# Altium integrated library TI Power Management Battery Management.IntLib: 949 symbols (part 57 of 62)
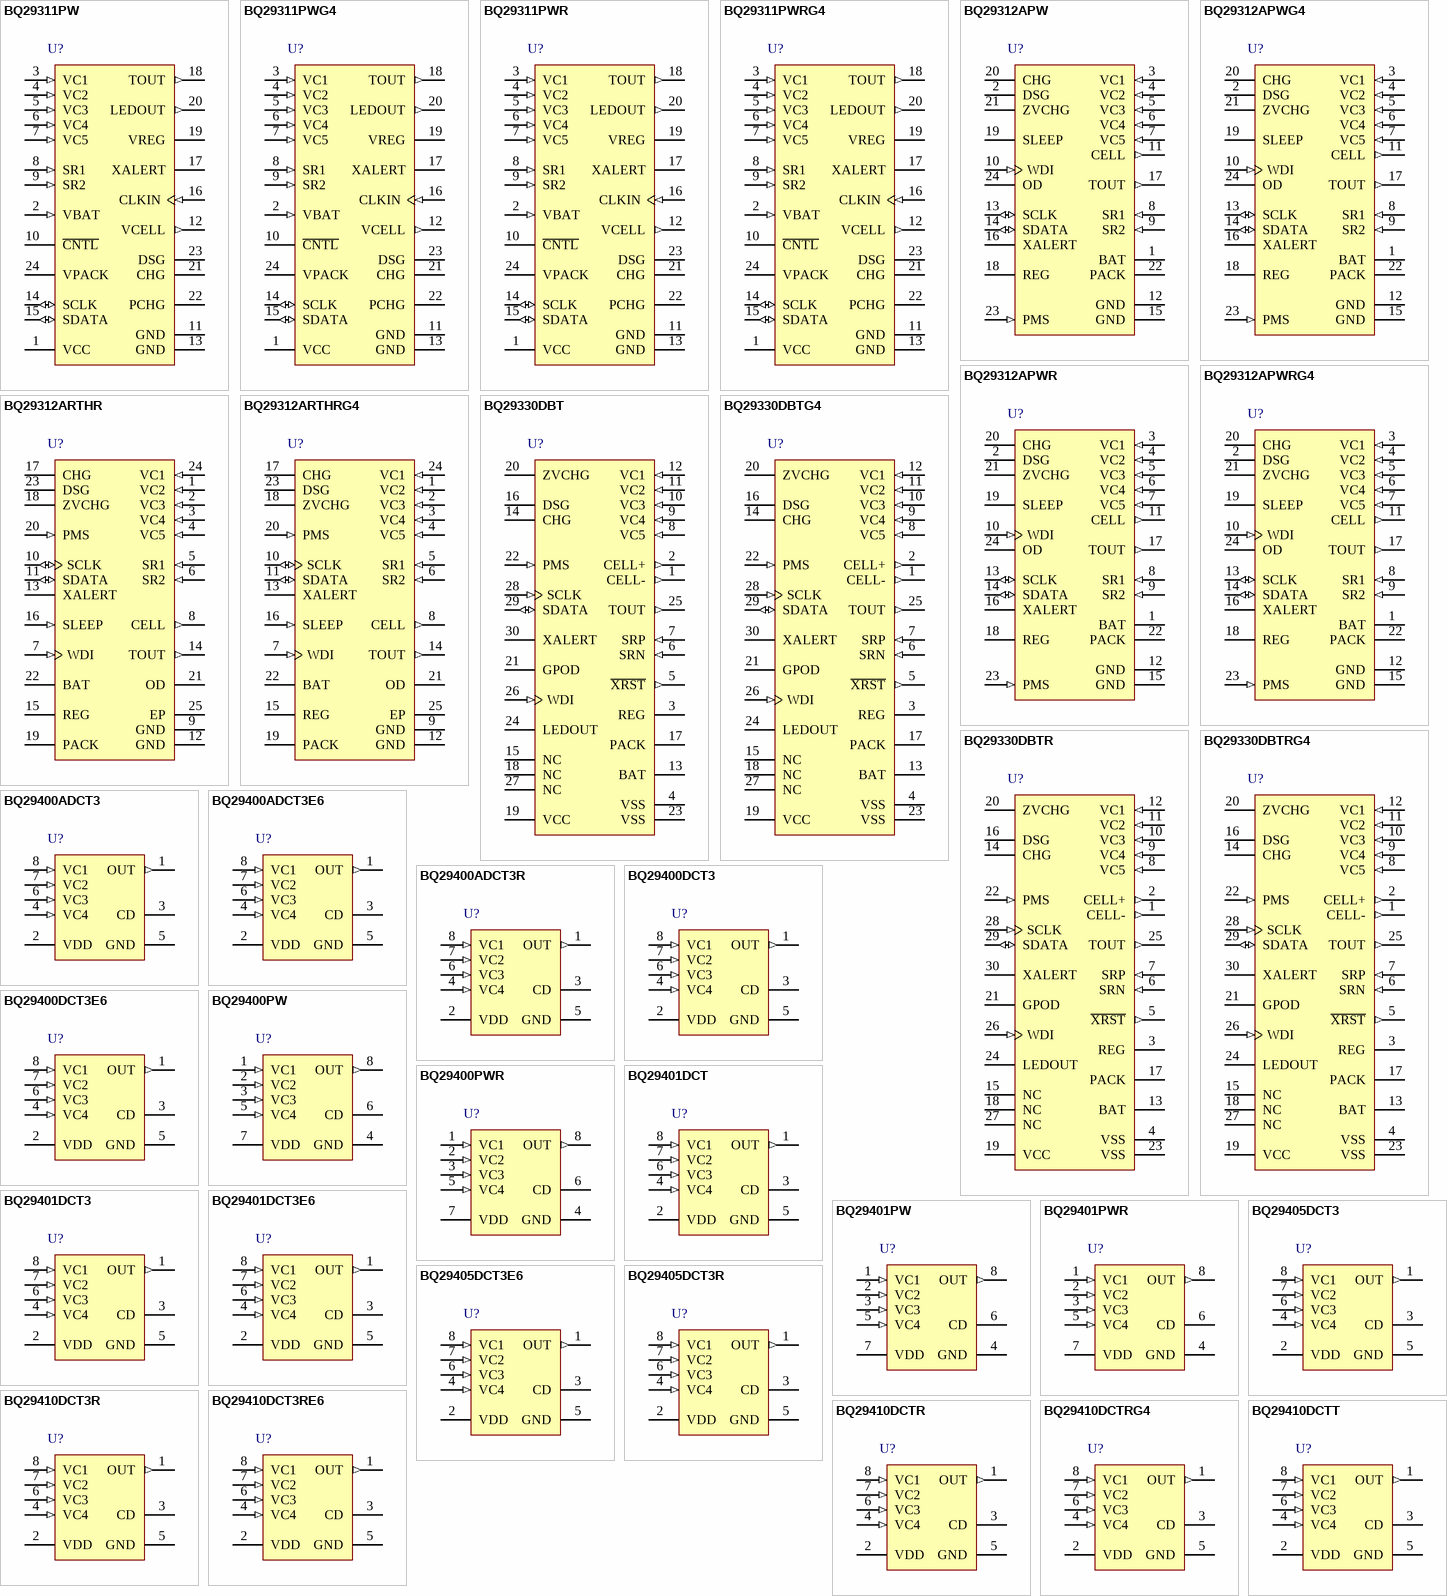
[diagram p90: symbols BQ29311PW to BQ29410DCTT]

## BQ29400DCT3
designator U?
2nd Level Over Voltage Protection for 2, 3, or 4 Cell LiIon & LiPoly Batteries (2nd Lev Protection), 8-pin SM8 (DCT), Pb-Free (RoHS); PartNumber: BQ29400DCT3; Manufacturer: Texas Instruments; Lead Acid: N; Li-Ion: Y; SubFamily: Lithium Ion Protection; DatasheetVersion: SLUS568C; PackageVersion: revC, Sep-2002; PackageReference: DCT8; PackageDescription: 8-Pin Thin Small Outline Package 3 x 2.8 mm Body ,0.65 mm Pitch; Supplier 1: Digi-Key; Supplier Part Number 1: 296-21691-2-ND; Supplier 2: Digi-Key; Supplier Part Number 2: 296-21691-1-ND; Supplier 3: Digi-Key; Supplier Part Number 3: 296-21691-6-ND; Supplier 4: Mouser; Supplier Part Number 4: 595-BQ29400DCT3; Eco-Plan: Pb-Free (RoHS); Li-Polymer: Y; NiCd: N; NiMH: N; Over Voltage Protection: Y; Mounting Technology: Surface Mount; Code_JEDEC: MO-187-DA; ComponentLink1Description: Datasheet; ComponentLink1URL: http://www.ti.com/general/docs/lit/getliterature.tsp?genericPartNumber=BQ29400&fileType=pdf
footprint DCT8_N (TSOP, 8-Leads, Body 3x2.8mm, Pitch 0.65mm, IPC Medium Density)
footprint DCT8_L (TSOP, 8-Leads, Body 3x2.8mm, Pitch 0.65mm, IPC High Density)
footprint DCT8_M (TSOP, 8-Leads, Body 3x2.8mm, Pitch 0.65mm, IPC Low Density)
pins: 1 OUT (out) "Output", 2 VDD (power) "Power supply", 3 CD "An external capacitor is connected to determine the programmable delay time", 4 VC4 (in) "Sense voltage input for least positive cell", 5 GND (power) "Ground pin", 6 VC3 (in) "Sense voltage input for third most positive cell", 7 VC2 (in) "Sense voltage input for second most positive cell", 8 VC1 (in) "Sense voltage input for most positive cell"

## BQ29400DCT3E6
designator U?
2nd Level Over Voltage Protection for 2, 3, or 4 Cell LiIon & LiPoly Batteries (2nd Lev Protection), 8-pin SM8 (DCT), Pb-Free (RoHS); PartNumber: BQ29400DCT3E6; Manufacturer: Texas Instruments; Lead Acid: N; Li-Ion: Y; SubFamily: Lithium Ion Protection; DatasheetVersion: SLUS568C; PackageVersion: revC, Sep-2002; PackageReference: DCT8; PackageDescription: 8-Pin Thin Small Outline Package 3 x 2.8 mm Body ,0.65 mm Pitch; Supplier 1: Digi-Key; Supplier Part Number 1: BQ29400DCT3E6-ND; Supplier 2: Mouser; Supplier Part Number 2: 595-BQ29400DCT3E6; Eco-Plan: Pb-Free (RoHS); Li-Polymer: Y; NiCd: N; NiMH: N; Over Voltage Protection: Y; Mounting Technology: Surface Mount; Code_JEDEC: MO-187-DA; ComponentLink1Description: Datasheet; ComponentLink1URL: http://www.ti.com/general/docs/lit/getliterature.tsp?genericPartNumber=BQ29400&fileType=pdf
footprint DCT8_N (TSOP, 8-Leads, Body 3x2.8mm, Pitch 0.65mm, IPC Medium Density)
footprint DCT8_L (TSOP, 8-Leads, Body 3x2.8mm, Pitch 0.65mm, IPC High Density)
footprint DCT8_M (TSOP, 8-Leads, Body 3x2.8mm, Pitch 0.65mm, IPC Low Density)
pins: 1 OUT (out) "Output", 2 VDD (power) "Power supply", 3 CD "An external capacitor is connected to determine the programmable delay time", 4 VC4 (in) "Sense voltage input for least positive cell", 5 GND (power) "Ground pin", 6 VC3 (in) "Sense voltage input for third most positive cell", 7 VC2 (in) "Sense voltage input for second most positive cell", 8 VC1 (in) "Sense voltage input for most positive cell"

## BQ29400PW
designator U?
2nd Level Over Voltage Protection for 2, 3, or 4 Cell LiIon & LiPoly Batteries (2nd Lev Protection), -25 to 85 degC, 8-pin TSSOP (PW), Green (RoHS & no Sb/Br); PartNumber: BQ29400PW; Manufacturer: Texas Instruments; Lead Acid: N; Li-Ion: Y; SubFamily: Lithium Ion Protection; DatasheetVersion: SLUS568C; PackageVersion: revG, Feb-2011; PackageReference: PW8; PackageDescription: 8-Pin Plastic Thin Small Outline Package 3 x 4.4 mm Body ,0.65 mm Pitch; Supplier 1: Digi-Key; Supplier Part Number 1: 296-15331-5-ND; Supplier 2: Newark; Supplier Part Number 2: 82H3104; Supplier 3: Mouser; Supplier Part Number 3: 595-BQ29400PW; Eco-Plan: Green (RoHS & no Sb/Br); Li-Polymer: Y; NiCd: N; NiMH: N; Over Voltage Protection: Y; Mounting Technology: Surface Mount; Code_JEDEC: MO-153; ComponentLink1Description: Datasheet; ComponentLink1URL: http://www.ti.com/general/docs/lit/getliterature.tsp?genericPartNumber=BQ29400&fileType=pdf
footprint PW8_N (TSOP, 8-Leads, Body 3x4.4mm, Pitch 0.65mm, IPC Medium Density)
footprint PW8_L (TSOP, 8-Leads, Body 3x4.4mm, Pitch 0.65mm, IPC High Density)
footprint PW8_M (TSOP, 8-Leads, Body 3x4.4mm, Pitch 0.65mm, IPC Low Density)
pins: 1 VC1 (in) "Sense voltage input for most positive cell", 2 VC2 (in) "Sense voltage input for second most positive cell", 3 VC3 (in) "Sense voltage input for third most positive cell", 4 GND (power) "Ground pin", 5 VC4 (in) "Sense voltage input for least positive cell", 6 CD "An external capacitor is connected to determine the programmable delay time", 7 VDD (power) "Power supply", 8 OUT (out) "Output"

## BQ29400PWR
designator U?
2nd Level Over Voltage Protection for 2, 3, or 4 Cell LiIon & LiPoly Batteries (2nd Lev Protection), -25 to 85 degC, 8-pin TSSOP (PW), Green (RoHS & no Sb/Br); PartNumber: BQ29400PWR; Manufacturer: Texas Instruments; Lead Acid: N; Li-Ion: Y; SubFamily: Lithium Ion Protection; DatasheetVersion: SLUS568C; PackageVersion: revG, Feb-2011; PackageReference: PW8; PackageDescription: 8-Pin Plastic Thin Small Outline Package 3 x 4.4 mm Body ,0.65 mm Pitch; Supplier 1: Digi-Key; Supplier Part Number 1: BQ29400PWR-ND; Supplier 2: Mouser; Supplier Part Number 2: 595-BQ29400PWR; Eco-Plan: Green (RoHS & no Sb/Br); Li-Polymer: Y; NiCd: N; NiMH: N; Over Voltage Protection: Y; Mounting Technology: Surface Mount; Code_JEDEC: MO-153; ComponentLink1Description: Datasheet; ComponentLink1URL: http://www.ti.com/general/docs/lit/getliterature.tsp?genericPartNumber=BQ29400&fileType=pdf
footprint PW8_N (TSOP, 8-Leads, Body 3x4.4mm, Pitch 0.65mm, IPC Medium Density)
footprint PW8_L (TSOP, 8-Leads, Body 3x4.4mm, Pitch 0.65mm, IPC High Density)
footprint PW8_M (TSOP, 8-Leads, Body 3x4.4mm, Pitch 0.65mm, IPC Low Density)
pins: 1 VC1 (in) "Sense voltage input for most positive cell", 2 VC2 (in) "Sense voltage input for second most positive cell", 3 VC3 (in) "Sense voltage input for third most positive cell", 4 GND (power) "Ground pin", 5 VC4 (in) "Sense voltage input for least positive cell", 6 CD "An external capacitor is connected to determine the programmable delay time", 7 VDD (power) "Power supply", 8 OUT (out) "Output"

## BQ29401DCT
designator U?
Voltage Protection for 2, 3 or 4 Cell Lion Batteries (2nd Protection), -20 to 85 degC, 8-pin SM8 (DCT); PartNumber: BQ29401DCT; Manufacturer: Texas Instruments; Lead Acid: N; Li-Ion: Y; SubFamily: Lithium Ion Protection; DatasheetVersion: SLUS568C; PackageVersion: revC, Sep-2002; PackageReference: DCT8; PackageDescription: 8-Pin Thin Small Outline Package 3 x 2.8 mm Body ,0.65 mm Pitch; Supplier 1: Mouser; Supplier Part Number 1: N/A; Li-Polymer: Y; NiCd: N; NiMH: N; Over Voltage Protection: Y; Mounting Technology: Surface Mount; Code_JEDEC: MO-187-DA; ComponentLink1Description: Datasheet; ComponentLink1URL: http://www.ti.com/general/docs/lit/getliterature.tsp?genericPartNumber=BQ29401&fileType=pdf
footprint DCT8_N (TSOP, 8-Leads, Body 3x2.8mm, Pitch 0.65mm, IPC Medium Density)
footprint DCT8_L (TSOP, 8-Leads, Body 3x2.8mm, Pitch 0.65mm, IPC High Density)
footprint DCT8_M (TSOP, 8-Leads, Body 3x2.8mm, Pitch 0.65mm, IPC Low Density)
pins: 1 OUT (out) "Output", 2 VDD (power) "Power supply", 3 CD "An external capacitor is connected to determine the programmable delay time", 4 VC4 (in) "Sense voltage input for least positive cell", 5 GND (power) "Ground pin", 6 VC3 (in) "Sense voltage input for third most positive cell", 7 VC2 (in) "Sense voltage input for second most positive cell", 8 VC1 (in) "Sense voltage input for most positive cell"

## BQ29401DCT3
designator U?
Voltage Protection for 2, 3 or 4 Cell Lion Batteries (2nd Protection), 8-pin SM8 (DCT), Pb-Free (RoHS); PartNumber: BQ29401DCT3; Manufacturer: Texas Instruments; Lead Acid: N; Li-Ion: Y; SubFamily: Lithium Ion Protection; DatasheetVersion: SLUS568C; PackageVersion: revC, Sep-2002; PackageReference: DCT8; PackageDescription: 8-Pin Thin Small Outline Package 3 x 2.8 mm Body ,0.65 mm Pitch; Supplier 1: Digi-Key; Supplier Part Number 1: BQ29401DCT3-ND; Supplier 2: Mouser; Supplier Part Number 2: 595-BQ29401DCT3; Eco-Plan: Pb-Free (RoHS); Li-Polymer: Y; NiCd: N; NiMH: N; Over Voltage Protection: Y; Mounting Technology: Surface Mount; Code_JEDEC: MO-187-DA; ComponentLink1Description: Datasheet; ComponentLink1URL: http://www.ti.com/general/docs/lit/getliterature.tsp?genericPartNumber=BQ29401&fileType=pdf
footprint DCT8_N (TSOP, 8-Leads, Body 3x2.8mm, Pitch 0.65mm, IPC Medium Density)
footprint DCT8_L (TSOP, 8-Leads, Body 3x2.8mm, Pitch 0.65mm, IPC High Density)
footprint DCT8_M (TSOP, 8-Leads, Body 3x2.8mm, Pitch 0.65mm, IPC Low Density)
pins: 1 OUT (out) "Output", 2 VDD (power) "Power supply", 3 CD "An external capacitor is connected to determine the programmable delay time", 4 VC4 (in) "Sense voltage input for least positive cell", 5 GND (power) "Ground pin", 6 VC3 (in) "Sense voltage input for third most positive cell", 7 VC2 (in) "Sense voltage input for second most positive cell", 8 VC1 (in) "Sense voltage input for most positive cell"

## BQ29401DCT3E6
designator U?
Voltage Protection for 2, 3 or 4 Cell Lion Batteries (2nd Protection), 8-pin SM8 (DCT), Pb-Free (RoHS); PartNumber: BQ29401DCT3E6; Manufacturer: Texas Instruments; Lead Acid: N; Li-Ion: Y; SubFamily: Lithium Ion Protection; DatasheetVersion: SLUS568C; PackageVersion: revC, Sep-2002; PackageReference: DCT8; PackageDescription: 8-Pin Thin Small Outline Package 3 x 2.8 mm Body ,0.65 mm Pitch; Supplier 1: Digi-Key; Supplier Part Number 1: BQ29401DCT3E6-ND; Supplier 2: Mouser; Supplier Part Number 2: 595-BQ29401DCT3E6; Eco-Plan: Pb-Free (RoHS); Li-Polymer: Y; NiCd: N; NiMH: N; Over Voltage Protection: Y; Mounting Technology: Surface Mount; Code_JEDEC: MO-187-DA; ComponentLink1Description: Datasheet; ComponentLink1URL: http://www.ti.com/general/docs/lit/getliterature.tsp?genericPartNumber=BQ29401&fileType=pdf
footprint DCT8_N (TSOP, 8-Leads, Body 3x2.8mm, Pitch 0.65mm, IPC Medium Density)
footprint DCT8_L (TSOP, 8-Leads, Body 3x2.8mm, Pitch 0.65mm, IPC High Density)
footprint DCT8_M (TSOP, 8-Leads, Body 3x2.8mm, Pitch 0.65mm, IPC Low Density)
pins: 1 OUT (out) "Output", 2 VDD (power) "Power supply", 3 CD "An external capacitor is connected to determine the programmable delay time", 4 VC4 (in) "Sense voltage input for least positive cell", 5 GND (power) "Ground pin", 6 VC3 (in) "Sense voltage input for third most positive cell", 7 VC2 (in) "Sense voltage input for second most positive cell", 8 VC1 (in) "Sense voltage input for most positive cell"

## BQ29401PW
designator U?
Voltage Protection for 2, 3 or 4 Cell Lion Batteries (2nd Protection), -20 to 85 degC, 8-pin TSSOP (PW), Green (RoHS & no Sb/Br); PartNumber: BQ29401PW; Manufacturer: Texas Instruments; Lead Acid: N; Li-Ion: Y; SubFamily: Lithium Ion Protection; DatasheetVersion: SLUS568C; PackageVersion: revG, Feb-2011; PackageReference: PW8; PackageDescription: 8-Pin Plastic Thin Small Outline Package 3 x 4.4 mm Body ,0.65 mm Pitch; Supplier 1: Digi-Key; Supplier Part Number 1: 296-16673-5-ND; Supplier 2: Newark; Supplier Part Number 2: 90H0529; Supplier 3: Mouser; Supplier Part Number 3: 595-BQ29401PW; Eco-Plan: Green (RoHS & no Sb/Br); Li-Polymer: Y; NiCd: N; NiMH: N; Over Voltage Protection: Y; Mounting Technology: Surface Mount; Code_JEDEC: MO-153; ComponentLink1Description: Datasheet; ComponentLink1URL: http://www.ti.com/general/docs/lit/getliterature.tsp?genericPartNumber=BQ29401&fileType=pdf
footprint PW8_N (TSOP, 8-Leads, Body 3x4.4mm, Pitch 0.65mm, IPC Medium Density)
footprint PW8_L (TSOP, 8-Leads, Body 3x4.4mm, Pitch 0.65mm, IPC High Density)
footprint PW8_M (TSOP, 8-Leads, Body 3x4.4mm, Pitch 0.65mm, IPC Low Density)
pins: 1 VC1 (in) "Sense voltage input for most positive cell", 2 VC2 (in) "Sense voltage input for second most positive cell", 3 VC3 (in) "Sense voltage input for third most positive cell", 4 GND (power) "Ground pin", 5 VC4 (in) "Sense voltage input for least positive cell", 6 CD "An external capacitor is connected to determine the programmable delay time", 7 VDD (power) "Power supply", 8 OUT (out) "Output"

## BQ29401PWR
designator U?
Voltage Protection for 2, 3 or 4 Cell Lion Batteries (2nd Protection), -20 to 85 degC, 8-pin TSSOP (PW), Green (RoHS & no Sb/Br); PartNumber: BQ29401PWR; Manufacturer: Texas Instruments; Lead Acid: N; Li-Ion: Y; SubFamily: Lithium Ion Protection; DatasheetVersion: SLUS568C; PackageVersion: revG, Feb-2011; PackageReference: PW8; PackageDescription: 8-Pin Plastic Thin Small Outline Package 3 x 4.4 mm Body ,0.65 mm Pitch; Supplier 1: Digi-Key; Supplier Part Number 1: BQ29401PWR-ND; Supplier 2: Mouser; Supplier Part Number 2: 595-BQ29401PWR; Eco-Plan: Green (RoHS & no Sb/Br); Li-Polymer: Y; NiCd: N; NiMH: N; Over Voltage Protection: Y; Mounting Technology: Surface Mount; Code_JEDEC: MO-153; ComponentLink1Description: Datasheet; ComponentLink1URL: http://www.ti.com/general/docs/lit/getliterature.tsp?genericPartNumber=BQ29401&fileType=pdf
footprint PW8_N (TSOP, 8-Leads, Body 3x4.4mm, Pitch 0.65mm, IPC Medium Density)
footprint PW8_L (TSOP, 8-Leads, Body 3x4.4mm, Pitch 0.65mm, IPC High Density)
footprint PW8_M (TSOP, 8-Leads, Body 3x4.4mm, Pitch 0.65mm, IPC Low Density)
pins: 1 VC1 (in) "Sense voltage input for most positive cell", 2 VC2 (in) "Sense voltage input for second most positive cell", 3 VC3 (in) "Sense voltage input for third most positive cell", 4 GND (power) "Ground pin", 5 VC4 (in) "Sense voltage input for least positive cell", 6 CD "An external capacitor is connected to determine the programmable delay time", 7 VDD (power) "Power supply", 8 OUT (out) "Output"

## BQ29405DCT3
designator U?
Voltage Protection for 2, 3 or 4 Cell LiIon Batteries (2nd Lev Protection), -25 to 85 degC, 8-pin SM8 (DCT), Pb-Free (RoHS); PartNumber: BQ29405DCT3; Manufacturer: Texas Instruments; Lead Acid: N; Li-Ion: Y; SubFamily: Lithium Ion Protection; DatasheetVersion: SLUS568C; PackageVersion: revC, Sep-2002; PackageReference: DCT8; PackageDescription: 8-Pin Thin Small Outline Package 3 x 2.8 mm Body ,0.65 mm Pitch; Supplier 1: Digi-Key; Supplier Part Number 1: BQ29405DCT3-ND; Supplier 2: Farnell; Supplier Part Number 2: 1647905RL; Supplier 3: Farnell; Supplier Part Number 3: 1647905; Supplier 4: Newark; Supplier Part Number 4: 33P6588; Supplier 5: Newark; Supplier Part Number 5: 03K8984; Supplier 6: Mouser; Supplier Part Number 6: 595-BQ29405DCT3; Eco-Plan: Pb-Free (RoHS); Li-Polymer: Y; NiCd: N; NiMH: N; Over Voltage Protection: Y; Mounting Technology: Surface Mount; Code_JEDEC: MO-187-DA; ComponentLink1Description: Datasheet; ComponentLink1URL: http://www.ti.com/general/docs/lit/getliterature.tsp?genericPartNumber=BQ29405&fileType=pdf
footprint DCT8_N (TSOP, 8-Leads, Body 3x2.8mm, Pitch 0.65mm, IPC Medium Density)
footprint DCT8_L (TSOP, 8-Leads, Body 3x2.8mm, Pitch 0.65mm, IPC High Density)
footprint DCT8_M (TSOP, 8-Leads, Body 3x2.8mm, Pitch 0.65mm, IPC Low Density)
pins: 1 OUT (out) "Output", 2 VDD (power) "Power supply", 3 CD "An external capacitor is connected to determine the programmable delay time", 4 VC4 (in) "Sense voltage input for least positive cell", 5 GND (power) "Ground pin", 6 VC3 (in) "Sense voltage input for third most positive cell", 7 VC2 (in) "Sense voltage input for second most positive cell", 8 VC1 (in) "Sense voltage input for most positive cell"

## BQ29405DCT3E6
designator U?
Voltage Protection for 2, 3 or 4 Cell LiIon Batteries (2nd Lev Protection), -25 to 85 degC, 8-pin SM8 (DCT), Pb-Free (RoHS); PartNumber: BQ29405DCT3E6; Manufacturer: Texas Instruments; Lead Acid: N; Li-Ion: Y; SubFamily: Lithium Ion Protection; DatasheetVersion: SLUS568C; PackageVersion: revC, Sep-2002; PackageReference: DCT8; PackageDescription: 8-Pin Thin Small Outline Package 3 x 2.8 mm Body ,0.65 mm Pitch; Supplier 1: Digi-Key; Supplier Part Number 1: BQ29405DCT3E6-ND; Supplier 2: Mouser; Supplier Part Number 2: 595-BQ29405DCT3E6; Eco-Plan: Pb-Free (RoHS); Li-Polymer: Y; NiCd: N; NiMH: N; Over Voltage Protection: Y; Mounting Technology: Surface Mount; Code_JEDEC: MO-187-DA; ComponentLink1Description: Datasheet; ComponentLink1URL: http://www.ti.com/general/docs/lit/getliterature.tsp?genericPartNumber=BQ29405&fileType=pdf
footprint DCT8_N (TSOP, 8-Leads, Body 3x2.8mm, Pitch 0.65mm, IPC Medium Density)
footprint DCT8_L (TSOP, 8-Leads, Body 3x2.8mm, Pitch 0.65mm, IPC High Density)
footprint DCT8_M (TSOP, 8-Leads, Body 3x2.8mm, Pitch 0.65mm, IPC Low Density)
pins: 1 OUT (out) "Output", 2 VDD (power) "Power supply", 3 CD "An external capacitor is connected to determine the programmable delay time", 4 VC4 (in) "Sense voltage input for least positive cell", 5 GND (power) "Ground pin", 6 VC3 (in) "Sense voltage input for third most positive cell", 7 VC2 (in) "Sense voltage input for second most positive cell", 8 VC1 (in) "Sense voltage input for most positive cell"

## BQ29405DCT3R
designator U?
Voltage Protection for 2, 3 or 4 Cell LiIon Batteries (2nd Lev Protection), -25 to 85 degC, 8-pin SM8 (DCT); PartNumber: BQ29405DCT3R; Manufacturer: Texas Instruments; Lead Acid: N; Li-Ion: Y; SubFamily: Lithium Ion Protection; DatasheetVersion: SLUS568C; PackageVersion: revC, Sep-2002; PackageReference: DCT8; PackageDescription: 8-Pin Thin Small Outline Package 3 x 2.8 mm Body ,0.65 mm Pitch; Supplier 1: Mouser; Supplier Part Number 1: N/A; Li-Polymer: Y; NiCd: N; NiMH: N; Over Voltage Protection: Y; Mounting Technology: Surface Mount; Code_JEDEC: MO-187-DA; ComponentLink1Description: Datasheet; ComponentLink1URL: http://www.ti.com/general/docs/lit/getliterature.tsp?genericPartNumber=BQ29405&fileType=pdf
footprint DCT8_N (TSOP, 8-Leads, Body 3x2.8mm, Pitch 0.65mm, IPC Medium Density)
footprint DCT8_L (TSOP, 8-Leads, Body 3x2.8mm, Pitch 0.65mm, IPC High Density)
footprint DCT8_M (TSOP, 8-Leads, Body 3x2.8mm, Pitch 0.65mm, IPC Low Density)
pins: 1 OUT (out) "Output", 2 VDD (power) "Power supply", 3 CD "An external capacitor is connected to determine the programmable delay time", 4 VC4 (in) "Sense voltage input for least positive cell", 5 GND (power) "Ground pin", 6 VC3 (in) "Sense voltage input for third most positive cell", 7 VC2 (in) "Sense voltage input for second most positive cell", 8 VC1 (in) "Sense voltage input for most positive cell"

## BQ29410DCT3R
designator U?
Secondary Over Voltage Protection for 2 to 4 Cell in Series Li-Ion / Poly (4.35 V), -40 to 110 degC, 8-pin SM8 (DCT), Pb-Free (RoHS); PartNumber: BQ29410DCT3R; Manufacturer: Texas Instruments; Lead Acid: N; Li-Ion: Y; SubFamily: Lithium Ion Protection; DatasheetVersion: SLUS669G; PackageVersion: revC, Sep-2002; PackageReference: DCT8; PackageDescription: 8-Pin Thin Small Outline Package 3 x 2.8 mm Body ,0.65 mm Pitch; Supplier 1: Digi-Key; Supplier Part Number 1: 296-20830-2-ND; Supplier 2: Digi-Key; Supplier Part Number 2: 296-20830-1-ND; Supplier 3: Digi-Key; Supplier Part Number 3: 296-20830-6-ND; Supplier 4: Newark; Supplier Part Number 4: 84K0855; Supplier 5: Mouser; Supplier Part Number 5: 595-BQ29410DCT3R; Eco-Plan: Pb-Free (RoHS); Li-Polymer: Y; NiCd: N; NiMH: N; Over Voltage Protection: Y; Mounting Technology: Surface Mount; Code_JEDEC: MO-187-DA; ComponentLink1Description: Datasheet; ComponentLink1URL: http://www.ti.com/general/docs/lit/getliterature.tsp?genericPartNumber=BQ29410&fileType=pdf
footprint DCT8_N (TSOP, 8-Leads, Body 3x2.8mm, Pitch 0.65mm, IPC Medium Density)
footprint DCT8_L (TSOP, 8-Leads, Body 3x2.8mm, Pitch 0.65mm, IPC High Density)
footprint DCT8_M (TSOP, 8-Leads, Body 3x2.8mm, Pitch 0.65mm, IPC Low Density)
pins: 1 OUT (out) "Output", 2 VDD (power) "Power supply", 3 CD "An external capacitor is connected to determine the programmable delay time", 4 VC4 (in) "Sense voltage input for least positive cell", 5 GND (power) "Ground pin", 6 VC3 (in) "Sense voltage input for third most positive cell", 7 VC2 (in) "Sense voltage input for second most positive cell", 8 VC1 (in) "Sense voltage input for most positive cell"

## BQ29410DCT3RE6
designator U?
Secondary Over Voltage Protection for 2 to 4 Cell in Series Li-Ion / Poly (4.35 V), -40 to 110 degC, 8-pin SM8 (DCT), Pb-Free (RoHS); PartNumber: BQ29410DCT3RE6; Manufacturer: Texas Instruments; Lead Acid: N; Li-Ion: Y; SubFamily: Lithium Ion Protection; DatasheetVersion: SLUS669G; PackageVersion: revC, Sep-2002; PackageReference: DCT8; PackageDescription: 8-Pin Thin Small Outline Package 3 x 2.8 mm Body ,0.65 mm Pitch; Supplier 1: Digi-Key; Supplier Part Number 1: BQ29410DCT3RE6-ND; Supplier 2: Newark; Supplier Part Number 2: 30M3433; Supplier 3: Mouser; Supplier Part Number 3: 595-BQ29410DCT3RE6; Eco-Plan: Pb-Free (RoHS); Li-Polymer: Y; NiCd: N; NiMH: N; Over Voltage Protection: Y; Mounting Technology: Surface Mount; Code_JEDEC: MO-187-DA; ComponentLink1Description: Datasheet; ComponentLink1URL: http://www.ti.com/general/docs/lit/getliterature.tsp?genericPartNumber=BQ29410&fileType=pdf
footprint DCT8_N (TSOP, 8-Leads, Body 3x2.8mm, Pitch 0.65mm, IPC Medium Density)
footprint DCT8_L (TSOP, 8-Leads, Body 3x2.8mm, Pitch 0.65mm, IPC High Density)
footprint DCT8_M (TSOP, 8-Leads, Body 3x2.8mm, Pitch 0.65mm, IPC Low Density)
pins: 1 OUT (out) "Output", 2 VDD (power) "Power supply", 3 CD "An external capacitor is connected to determine the programmable delay time", 4 VC4 (in) "Sense voltage input for least positive cell", 5 GND (power) "Ground pin", 6 VC3 (in) "Sense voltage input for third most positive cell", 7 VC2 (in) "Sense voltage input for second most positive cell", 8 VC1 (in) "Sense voltage input for most positive cell"

## BQ29410DCTR
designator U?
Secondary Over Voltage Protection for 2 to 4 Cell in Series Li-Ion / Poly (4.35 V), -40 to 110 degC, 8-pin SM8 (DCT), Green (RoHS & no Sb/Br); PartNumber: BQ29410DCTR; Manufacturer: Texas Instruments; Lead Acid: N; Li-Ion: Y; SubFamily: Lithium Ion Protection; DatasheetVersion: SLUS669G; PackageVersion: revC, Sep-2002; PackageReference: DCT8; PackageDescription: 8-Pin Thin Small Outline Package 3 x 2.8 mm Body ,0.65 mm Pitch; Supplier 1: Digi-Key; Supplier Part Number 1: 296-21218-2-ND; Supplier 2: Digi-Key; Supplier Part Number 2: 296-21218-1-ND; Supplier 3: Digi-Key; Supplier Part Number 3: 296-21218-6-ND; Supplier 4: Newark; Supplier Part Number 4: 20M7003; Supplier 5: Mouser; Supplier Part Number 5: 595-BQ29410DCTR; Eco-Plan: Green (RoHS & no Sb/Br); Li-Polymer: Y; NiCd: N; NiMH: N; Over Voltage Protection: Y; Mounting Technology: Surface Mount; Code_JEDEC: MO-187-DA; ComponentLink1Description: Datasheet; ComponentLink1URL: http://www.ti.com/general/docs/lit/getliterature.tsp?genericPartNumber=BQ29410&fileType=pdf
footprint DCT8_N (TSOP, 8-Leads, Body 3x2.8mm, Pitch 0.65mm, IPC Medium Density)
footprint DCT8_L (TSOP, 8-Leads, Body 3x2.8mm, Pitch 0.65mm, IPC High Density)
footprint DCT8_M (TSOP, 8-Leads, Body 3x2.8mm, Pitch 0.65mm, IPC Low Density)
pins: 1 OUT (out) "Output", 2 VDD (power) "Power supply", 3 CD "An external capacitor is connected to determine the programmable delay time", 4 VC4 (in) "Sense voltage input for least positive cell", 5 GND (power) "Ground pin", 6 VC3 (in) "Sense voltage input for third most positive cell", 7 VC2 (in) "Sense voltage input for second most positive cell", 8 VC1 (in) "Sense voltage input for most positive cell"

## BQ29410DCTRG4
designator U?
Secondary Over Voltage Protection for 2 to 4 Cell in Series Li-Ion / Poly (4.35 V), -40 to 110 degC, 8-pin SM8 (DCT), Green (RoHS & no Sb/Br); PartNumber: BQ29410DCTRG4; Manufacturer: Texas Instruments; Lead Acid: N; Li-Ion: Y; SubFamily: Lithium Ion Protection; DatasheetVersion: SLUS669G; PackageVersion: revC, Sep-2002; PackageReference: DCT8; PackageDescription: 8-Pin Thin Small Outline Package 3 x 2.8 mm Body ,0.65 mm Pitch; Supplier 1: Digi-Key; Supplier Part Number 1: BQ29410DCTRG4-ND; Supplier 2: Newark; Supplier Part Number 2: 20M7004; Supplier 3: Mouser; Supplier Part Number 3: 595-BQ29410DCTRG4; Eco-Plan: Green (RoHS & no Sb/Br); Li-Polymer: Y; NiCd: N; NiMH: N; Over Voltage Protection: Y; Mounting Technology: Surface Mount; Code_JEDEC: MO-187-DA; ComponentLink1Description: Datasheet; ComponentLink1URL: http://www.ti.com/general/docs/lit/getliterature.tsp?genericPartNumber=BQ29410&fileType=pdf
footprint DCT8_N (TSOP, 8-Leads, Body 3x2.8mm, Pitch 0.65mm, IPC Medium Density)
footprint DCT8_L (TSOP, 8-Leads, Body 3x2.8mm, Pitch 0.65mm, IPC High Density)
footprint DCT8_M (TSOP, 8-Leads, Body 3x2.8mm, Pitch 0.65mm, IPC Low Density)
pins: 1 OUT (out) "Output", 2 VDD (power) "Power supply", 3 CD "An external capacitor is connected to determine the programmable delay time", 4 VC4 (in) "Sense voltage input for least positive cell", 5 GND (power) "Ground pin", 6 VC3 (in) "Sense voltage input for third most positive cell", 7 VC2 (in) "Sense voltage input for second most positive cell", 8 VC1 (in) "Sense voltage input for most positive cell"

## BQ29410DCTT
designator U?
Secondary Over Voltage Protection for 2 to 4 Cell in Series Li-Ion / Poly (4.35 V), -40 to 110 degC, 8-pin SM8 (DCT), Green (RoHS & no Sb/Br); PartNumber: BQ29410DCTT; Manufacturer: Texas Instruments; Lead Acid: N; Li-Ion: Y; SubFamily: Lithium Ion Protection; DatasheetVersion: SLUS669G; PackageVersion: revC, Sep-2002; PackageReference: DCT8; PackageDescription: 8-Pin Thin Small Outline Package 3 x 2.8 mm Body ,0.65 mm Pitch; Supplier 1: Digi-Key; Supplier Part Number 1: 296-32039-2-ND; Supplier 2: Digi-Key; Supplier Part Number 2: 296-32039-1-ND; Supplier 3: Digi-Key; Supplier Part Number 3: 296-32039-6-ND; Supplier 4: Farnell; Supplier Part Number 4: 1754772; Supplier 5: Farnell; Supplier Part Number 5: 1754772RL; Supplier 6: Newark; Supplier Part Number 6: 34R6762; Supplier 7: Newark; Supplier Part Number 7: 20M5011; Supplier 8: Mouser; Supplier Part Number 8: 595-BQ29410DCTT; Eco-Plan: Green (RoHS & no Sb/Br); Li-Polymer: Y; NiCd: N; NiMH: N; Over Voltage Protection: Y; Mounting Technology: Surface Mount; Code_JEDEC: MO-187-DA; ComponentLink1Description: Datasheet; ComponentLink1URL: http://www.ti.com/general/docs/lit/getliterature.tsp?genericPartNumber=BQ29410&fileType=pdf
footprint DCT8_N (TSOP, 8-Leads, Body 3x2.8mm, Pitch 0.65mm, IPC Medium Density)
footprint DCT8_L (TSOP, 8-Leads, Body 3x2.8mm, Pitch 0.65mm, IPC High Density)
footprint DCT8_M (TSOP, 8-Leads, Body 3x2.8mm, Pitch 0.65mm, IPC Low Density)
pins: 1 OUT (out) "Output", 2 VDD (power) "Power supply", 3 CD "An external capacitor is connected to determine the programmable delay time", 4 VC4 (in) "Sense voltage input for least positive cell", 5 GND (power) "Ground pin", 6 VC3 (in) "Sense voltage input for third most positive cell", 7 VC2 (in) "Sense voltage input for second most positive cell", 8 VC1 (in) "Sense voltage input for most positive cell"

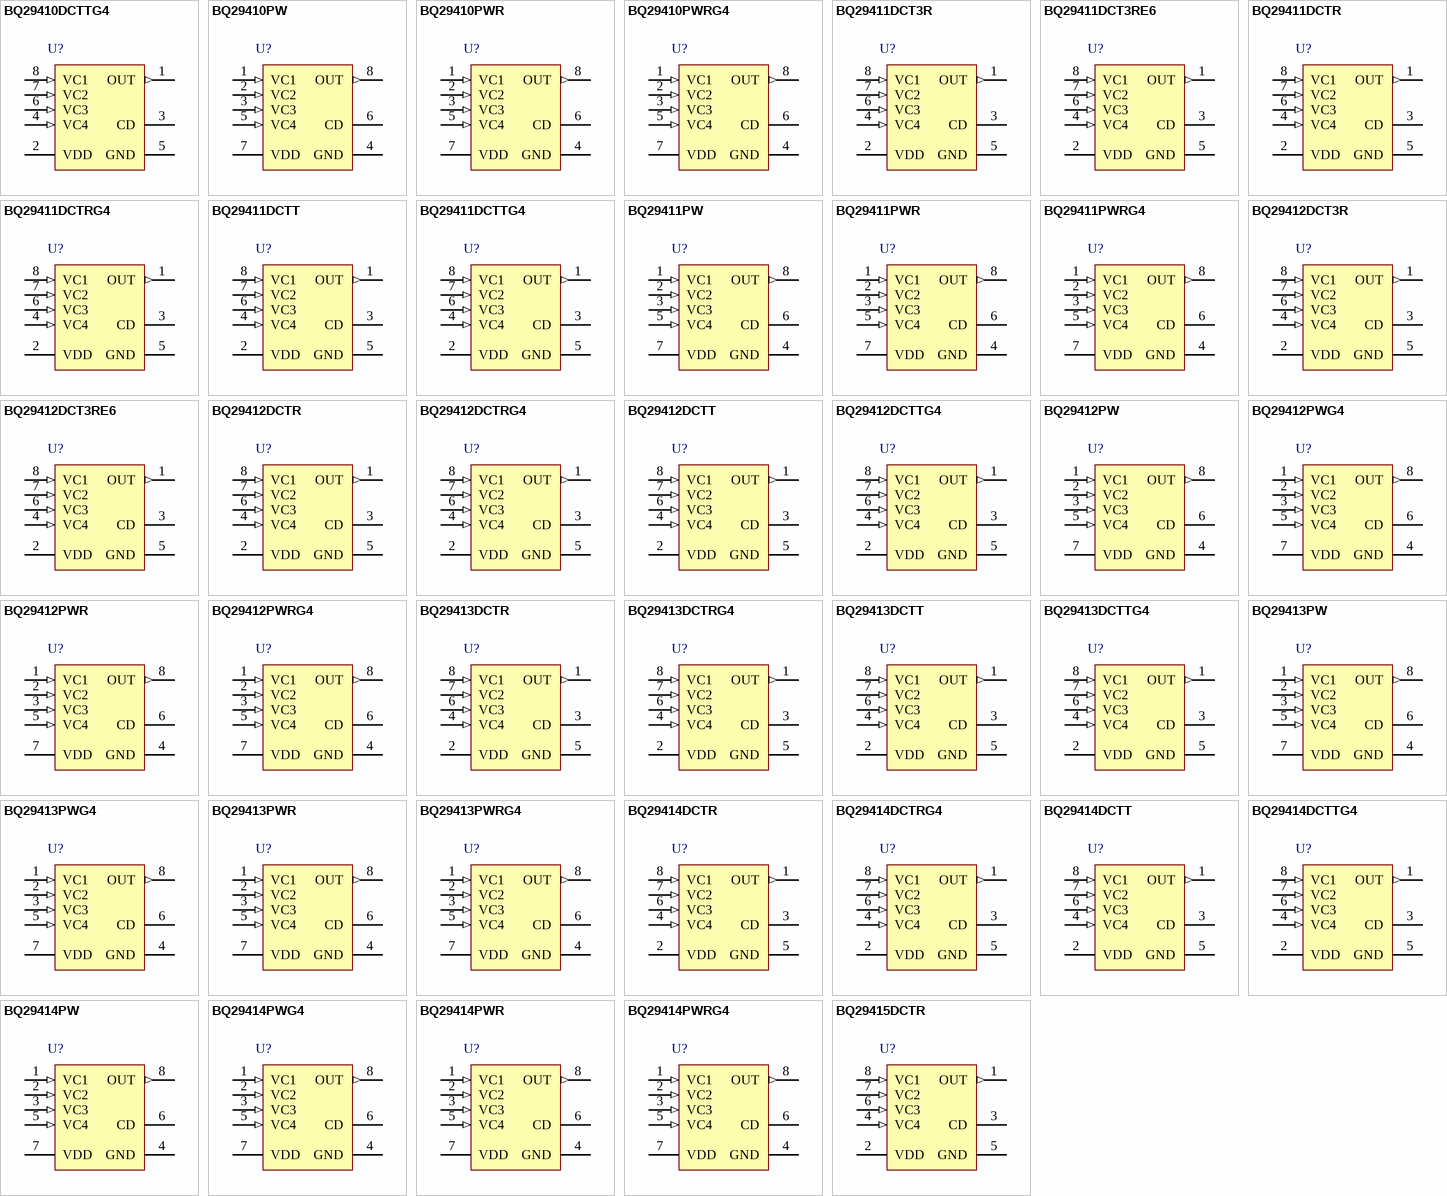
[diagram p31: symbols BQ29410DCTTG4 to BQ29415DCTR]

## BQ29410DCTTG4
designator U?
Secondary Over Voltage Protection for 2 to 4 Cell in Series Li-Ion / Poly (4.35 V), -40 to 110 degC, 8-pin SM8 (DCT), Green (RoHS & no Sb/Br); PartNumber: BQ29410DCTTG4; Manufacturer: Texas Instruments; Lead Acid: N; Li-Ion: Y; SubFamily: Lithium Ion Protection; DatasheetVersion: SLUS669G; PackageVersion: revC, Sep-2002; PackageReference: DCT8; PackageDescription: 8-Pin Thin Small Outline Package 3 x 2.8 mm Body ,0.65 mm Pitch; Supplier 1: Digi-Key; Supplier Part Number 1: BQ29410DCTTG4-ND; Supplier 2: Newark; Supplier Part Number 2: 20M5012; Supplier 3: Mouser; Supplier Part Number 3: 595-BQ29410DCTTG4; Eco-Plan: Green (RoHS & no Sb/Br); Li-Polymer: Y; NiCd: N; NiMH: N; Over Voltage Protection: Y; Mounting Technology: Surface Mount; Code_JEDEC: MO-187-DA; ComponentLink1Description: Datasheet; ComponentLink1URL: http://www.ti.com/general/docs/lit/getliterature.tsp?genericPartNumber=BQ29410&fileType=pdf
footprint DCT8_N (TSOP, 8-Leads, Body 3x2.8mm, Pitch 0.65mm, IPC Medium Density)
footprint DCT8_L (TSOP, 8-Leads, Body 3x2.8mm, Pitch 0.65mm, IPC High Density)
footprint DCT8_M (TSOP, 8-Leads, Body 3x2.8mm, Pitch 0.65mm, IPC Low Density)
pins: 1 OUT (out) "Output", 2 VDD (power) "Power supply", 3 CD "An external capacitor is connected to determine the programmable delay time", 4 VC4 (in) "Sense voltage input for least positive cell", 5 GND (power) "Ground pin", 6 VC3 (in) "Sense voltage input for third most positive cell", 7 VC2 (in) "Sense voltage input for second most positive cell", 8 VC1 (in) "Sense voltage input for most positive cell"

## BQ29410PW
designator U?
Secondary Over Voltage Protection for 2 to 4 Cell in Series Li-Ion / Poly (4.35 V), -40 to 110 degC, 8-pin TSSOP (PW), Green (RoHS & no Sb/Br); PartNumber: BQ29410PW; Manufacturer: Texas Instruments; Lead Acid: N; Li-Ion: Y; SubFamily: Lithium Ion Protection; DatasheetVersion: SLUS669G; PackageVersion: revG, Feb-2011; PackageReference: PW8; PackageDescription: 8-Pin Plastic Thin Small Outline Package 3 x 4.4 mm Body ,0.65 mm Pitch; Supplier 1: Digi-Key; Supplier Part Number 1: 296-19574-5-ND; Supplier 2: Newark; Supplier Part Number 2: 84K0856; Supplier 3: Mouser; Supplier Part Number 3: 595-BQ29410PW; Eco-Plan: Green (RoHS & no Sb/Br); Li-Polymer: Y; NiCd: N; NiMH: N; Over Voltage Protection: Y; Mounting Technology: Surface Mount; Code_JEDEC: MO-153; ComponentLink1Description: Datasheet; ComponentLink1URL: http://www.ti.com/general/docs/lit/getliterature.tsp?genericPartNumber=BQ29410&fileType=pdf
footprint PW8_N (TSOP, 8-Leads, Body 3x4.4mm, Pitch 0.65mm, IPC Medium Density)
footprint PW8_L (TSOP, 8-Leads, Body 3x4.4mm, Pitch 0.65mm, IPC High Density)
footprint PW8_M (TSOP, 8-Leads, Body 3x4.4mm, Pitch 0.65mm, IPC Low Density)
pins: 1 VC1 (in) "Sense voltage input for most positive cell", 2 VC2 (in) "Sense voltage input for second most positive cell", 3 VC3 (in) "Sense voltage input for third most positive cell", 4 GND (power) "Ground pin", 5 VC4 (in) "Sense voltage input for least positive cell", 6 CD "An external capacitor is connected to determine the programmable delay time", 7 VDD (power) "Power supply", 8 OUT (out) "Output"

## BQ29410PWR
designator U?
Secondary Over Voltage Protection for 2 to 4 Cell in Series Li-Ion / Poly (4.35 V), -40 to 110 degC, 8-pin TSSOP (PW), Green (RoHS & no Sb/Br); PartNumber: BQ29410PWR; Manufacturer: Texas Instruments; Lead Acid: N; Li-Ion: Y; SubFamily: Lithium Ion Protection; DatasheetVersion: SLUS669G; PackageVersion: revG, Feb-2011; PackageReference: PW8; PackageDescription: 8-Pin Plastic Thin Small Outline Package 3 x 4.4 mm Body ,0.65 mm Pitch; Supplier 1: Digi-Key; Supplier Part Number 1: BQ29410PWR-ND; Supplier 2: Newark; Supplier Part Number 2: 84K0857; Supplier 3: Mouser; Supplier Part Number 3: 595-BQ29410PWR; Eco-Plan: Green (RoHS & no Sb/Br); Li-Polymer: Y; NiCd: N; NiMH: N; Over Voltage Protection: Y; Mounting Technology: Surface Mount; Code_JEDEC: MO-153; ComponentLink1Description: Datasheet; ComponentLink1URL: http://www.ti.com/general/docs/lit/getliterature.tsp?genericPartNumber=BQ29410&fileType=pdf
footprint PW8_N (TSOP, 8-Leads, Body 3x4.4mm, Pitch 0.65mm, IPC Medium Density)
footprint PW8_L (TSOP, 8-Leads, Body 3x4.4mm, Pitch 0.65mm, IPC High Density)
footprint PW8_M (TSOP, 8-Leads, Body 3x4.4mm, Pitch 0.65mm, IPC Low Density)
pins: 1 VC1 (in) "Sense voltage input for most positive cell", 2 VC2 (in) "Sense voltage input for second most positive cell", 3 VC3 (in) "Sense voltage input for third most positive cell", 4 GND (power) "Ground pin", 5 VC4 (in) "Sense voltage input for least positive cell", 6 CD "An external capacitor is connected to determine the programmable delay time", 7 VDD (power) "Power supply", 8 OUT (out) "Output"

## BQ29410PWRG4
designator U?
Secondary Over Voltage Protection for 2 to 4 Cell in Series Li-Ion / Poly (4.35 V), -40 to 110 degC, 8-pin TSSOP (PW), Green (RoHS & no Sb/Br); PartNumber: BQ29410PWRG4; Manufacturer: Texas Instruments; Lead Acid: N; Li-Ion: Y; SubFamily: Lithium Ion Protection; DatasheetVersion: SLUS669G; PackageVersion: revG, Feb-2011; PackageReference: PW8; PackageDescription: 8-Pin Plastic Thin Small Outline Package 3 x 4.4 mm Body ,0.65 mm Pitch; Supplier 1: Digi-Key; Supplier Part Number 1: 296-21298-2-ND; Supplier 2: Digi-Key; Supplier Part Number 2: 296-21298-1-ND; Supplier 3: Digi-Key; Supplier Part Number 3: 296-21298-6-ND; Supplier 4: Newark; Supplier Part Number 4: 21M9464; Supplier 5: Mouser; Supplier Part Number 5: 595-BQ29410PWRG4; Eco-Plan: Green (RoHS & no Sb/Br); Li-Polymer: Y; NiCd: N; NiMH: N; Over Voltage Protection: Y; Mounting Technology: Surface Mount; Code_JEDEC: MO-153; ComponentLink1Description: Datasheet; ComponentLink1URL: http://www.ti.com/general/docs/lit/getliterature.tsp?genericPartNumber=BQ29410&fileType=pdf
footprint PW8_N (TSOP, 8-Leads, Body 3x4.4mm, Pitch 0.65mm, IPC Medium Density)
footprint PW8_L (TSOP, 8-Leads, Body 3x4.4mm, Pitch 0.65mm, IPC High Density)
footprint PW8_M (TSOP, 8-Leads, Body 3x4.4mm, Pitch 0.65mm, IPC Low Density)
pins: 1 VC1 (in) "Sense voltage input for most positive cell", 2 VC2 (in) "Sense voltage input for second most positive cell", 3 VC3 (in) "Sense voltage input for third most positive cell", 4 GND (power) "Ground pin", 5 VC4 (in) "Sense voltage input for least positive cell", 6 CD "An external capacitor is connected to determine the programmable delay time", 7 VDD (power) "Power supply", 8 OUT (out) "Output"

## BQ29411DCT3R
designator U?
Secondary Over Voltage Protection for 2 to 4 Cell in Series Li-Ion / Poly (4.40 V), -40 to 110 degC, 8-pin SM8 (DCT), Pb-Free (RoHS); PartNumber: BQ29411DCT3R; Manufacturer: Texas Instruments; Lead Acid: N; Li-Ion: Y; SubFamily: Lithium Ion Protection; DatasheetVersion: SLUS669G; PackageVersion: revC, Sep-2002; PackageReference: DCT8; PackageDescription: 8-Pin Thin Small Outline Package 3 x 2.8 mm Body ,0.65 mm Pitch; Supplier 1: Digi-Key; Supplier Part Number 1: 296-20831-2-ND; Supplier 2: Digi-Key; Supplier Part Number 2: 296-20831-1-ND; Supplier 3: Digi-Key; Supplier Part Number 3: 296-20831-6-ND; Supplier 4: Newark; Supplier Part Number 4: 84K0858; Supplier 5: Mouser; Supplier Part Number 5: 595-BQ29411DCT3R; Eco-Plan: Pb-Free (RoHS); Li-Polymer: Y; NiCd: N; NiMH: N; Over Voltage Protection: Y; Mounting Technology: Surface Mount; Code_JEDEC: MO-187-DA; ComponentLink1Description: Datasheet; ComponentLink1URL: http://www.ti.com/general/docs/lit/getliterature.tsp?genericPartNumber=BQ29411&fileType=pdf
footprint DCT8_N (TSOP, 8-Leads, Body 3x2.8mm, Pitch 0.65mm, IPC Medium Density)
footprint DCT8_L (TSOP, 8-Leads, Body 3x2.8mm, Pitch 0.65mm, IPC High Density)
footprint DCT8_M (TSOP, 8-Leads, Body 3x2.8mm, Pitch 0.65mm, IPC Low Density)
pins: 1 OUT (out) "Output.", 2 VDD (power) "Power supply.", 3 CD "An external capacitor is connected to determine the programmable delay time.", 4 VC4 (in) "Sense voltage input for least positive cell.", 5 GND (power) "Ground pin.", 6 VC3 (in) "Sense voltage input for third most positive cell.", 7 VC2 (in) "Sense voltage input for second most positive cell.", 8 VC1 (in) "Sense voltage input for most positive cell."

## BQ29411DCT3RE6
designator U?
Secondary Over Voltage Protection for 2 to 4 Cell in Series Li-Ion / Poly (4.40 V), -40 to 110 degC, 8-pin SM8 (DCT), Pb-Free (RoHS); PartNumber: BQ29411DCT3RE6; Manufacturer: Texas Instruments; Lead Acid: N; Li-Ion: Y; SubFamily: Lithium Ion Protection; DatasheetVersion: SLUS669G; PackageVersion: revC, Sep-2002; PackageReference: DCT8; PackageDescription: 8-Pin Thin Small Outline Package 3 x 2.8 mm Body ,0.65 mm Pitch; Supplier 1: Digi-Key; Supplier Part Number 1: BQ29411DCT3RE6-ND; Supplier 2: Newark; Supplier Part Number 2: 30M3434; Supplier 3: Mouser; Supplier Part Number 3: 595-BQ29411DCT3RE6; Eco-Plan: Pb-Free (RoHS); Li-Polymer: Y; NiCd: N; NiMH: N; Over Voltage Protection: Y; Mounting Technology: Surface Mount; Code_JEDEC: MO-187-DA; ComponentLink1Description: Datasheet; ComponentLink1URL: http://www.ti.com/general/docs/lit/getliterature.tsp?genericPartNumber=BQ29411&fileType=pdf
footprint DCT8_N (TSOP, 8-Leads, Body 3x2.8mm, Pitch 0.65mm, IPC Medium Density)
footprint DCT8_L (TSOP, 8-Leads, Body 3x2.8mm, Pitch 0.65mm, IPC High Density)
footprint DCT8_M (TSOP, 8-Leads, Body 3x2.8mm, Pitch 0.65mm, IPC Low Density)
pins: 1 OUT (out) "Output.", 2 VDD (power) "Power supply.", 3 CD "An external capacitor is connected to determine the programmable delay time.", 4 VC4 (in) "Sense voltage input for least positive cell.", 5 GND (power) "Ground pin.", 6 VC3 (in) "Sense voltage input for third most positive cell.", 7 VC2 (in) "Sense voltage input for second most positive cell.", 8 VC1 (in) "Sense voltage input for most positive cell."

## BQ29411DCTR
designator U?
Secondary Over Voltage Protection for 2 to 4 Cell in Series Li-Ion / Poly (4.40 V), -40 to 110 degC, 8-pin SM8 (DCT), Green (RoHS & no Sb/Br); PartNumber: BQ29411DCTR; Manufacturer: Texas Instruments; Lead Acid: N; Li-Ion: Y; SubFamily: Lithium Ion Protection; DatasheetVersion: SLUS669G; PackageVersion: revC, Sep-2002; PackageReference: DCT8; PackageDescription: 8-Pin Thin Small Outline Package 3 x 2.8 mm Body ,0.65 mm Pitch; Supplier 1: Digi-Key; Supplier Part Number 1: 296-21219-2-ND; Supplier 2: Digi-Key; Supplier Part Number 2: 296-21219-1-ND; Supplier 3: Digi-Key; Supplier Part Number 3: 296-21219-6-ND; Supplier 4: Newark; Supplier Part Number 4: 20M7005; Supplier 5: Mouser; Supplier Part Number 5: 595-BQ29411DCTR; Eco-Plan: Green (RoHS & no Sb/Br); Li-Polymer: Y; NiCd: N; NiMH: N; Over Voltage Protection: Y; Mounting Technology: Surface Mount; Code_JEDEC: MO-187-DA; ComponentLink1Description: Datasheet; ComponentLink1URL: http://www.ti.com/general/docs/lit/getliterature.tsp?genericPartNumber=BQ29411&fileType=pdf
footprint DCT8_N (TSOP, 8-Leads, Body 3x2.8mm, Pitch 0.65mm, IPC Medium Density)
footprint DCT8_L (TSOP, 8-Leads, Body 3x2.8mm, Pitch 0.65mm, IPC High Density)
footprint DCT8_M (TSOP, 8-Leads, Body 3x2.8mm, Pitch 0.65mm, IPC Low Density)
pins: 1 OUT (out) "Output.", 2 VDD (power) "Power supply.", 3 CD "An external capacitor is connected to determine the programmable delay time.", 4 VC4 (in) "Sense voltage input for least positive cell.", 5 GND (power) "Ground pin.", 6 VC3 (in) "Sense voltage input for third most positive cell.", 7 VC2 (in) "Sense voltage input for second most positive cell.", 8 VC1 (in) "Sense voltage input for most positive cell."

## BQ29411DCTRG4
designator U?
Secondary Over Voltage Protection for 2 to 4 Cell in Series Li-Ion / Poly (4.40 V), -40 to 110 degC, 8-pin SM8 (DCT), Green (RoHS & no Sb/Br); PartNumber: BQ29411DCTRG4; Manufacturer: Texas Instruments; Lead Acid: N; Li-Ion: Y; SubFamily: Lithium Ion Protection; DatasheetVersion: SLUS669G; PackageVersion: revC, Sep-2002; PackageReference: DCT8; PackageDescription: 8-Pin Thin Small Outline Package 3 x 2.8 mm Body ,0.65 mm Pitch; Supplier 1: Digi-Key; Supplier Part Number 1: BQ29411DCTRG4-ND; Supplier 2: Newark; Supplier Part Number 2: 20M7006; Supplier 3: Mouser; Supplier Part Number 3: 595-BQ29411DCTRG4; Eco-Plan: Green (RoHS & no Sb/Br); Li-Polymer: Y; NiCd: N; NiMH: N; Over Voltage Protection: Y; Mounting Technology: Surface Mount; Code_JEDEC: MO-187-DA; ComponentLink1Description: Datasheet; ComponentLink1URL: http://www.ti.com/general/docs/lit/getliterature.tsp?genericPartNumber=BQ29411&fileType=pdf
footprint DCT8_N (TSOP, 8-Leads, Body 3x2.8mm, Pitch 0.65mm, IPC Medium Density)
footprint DCT8_L (TSOP, 8-Leads, Body 3x2.8mm, Pitch 0.65mm, IPC High Density)
footprint DCT8_M (TSOP, 8-Leads, Body 3x2.8mm, Pitch 0.65mm, IPC Low Density)
pins: 1 OUT (out) "Output.", 2 VDD (power) "Power supply.", 3 CD "An external capacitor is connected to determine the programmable delay time.", 4 VC4 (in) "Sense voltage input for least positive cell.", 5 GND (power) "Ground pin.", 6 VC3 (in) "Sense voltage input for third most positive cell.", 7 VC2 (in) "Sense voltage input for second most positive cell.", 8 VC1 (in) "Sense voltage input for most positive cell."

## BQ29411DCTT
designator U?
Secondary Over Voltage Protection for 2 to 4 Cell in Series Li-Ion / Poly (4.40 V), -40 to 110 degC, 8-pin SM8 (DCT), Green (RoHS & no Sb/Br); PartNumber: BQ29411DCTT; Manufacturer: Texas Instruments; Lead Acid: N; Li-Ion: Y; SubFamily: Lithium Ion Protection; DatasheetVersion: SLUS669G; PackageVersion: revC, Sep-2002; PackageReference: DCT8; PackageDescription: 8-Pin Thin Small Outline Package 3 x 2.8 mm Body ,0.65 mm Pitch; Supplier 1: Digi-Key; Supplier Part Number 1: BQ29411DCTT-ND; Supplier 2: Newark; Supplier Part Number 2: 20M5013; Supplier 3: Mouser; Supplier Part Number 3: 595-BQ29411DCTT; Eco-Plan: Green (RoHS & no Sb/Br); Li-Polymer: Y; NiCd: N; NiMH: N; Over Voltage Protection: Y; Mounting Technology: Surface Mount; Code_JEDEC: MO-187-DA; ComponentLink1Description: Datasheet; ComponentLink1URL: http://www.ti.com/general/docs/lit/getliterature.tsp?genericPartNumber=BQ29411&fileType=pdf
footprint DCT8_N (TSOP, 8-Leads, Body 3x2.8mm, Pitch 0.65mm, IPC Medium Density)
footprint DCT8_L (TSOP, 8-Leads, Body 3x2.8mm, Pitch 0.65mm, IPC High Density)
footprint DCT8_M (TSOP, 8-Leads, Body 3x2.8mm, Pitch 0.65mm, IPC Low Density)
pins: 1 OUT (out) "Output.", 2 VDD (power) "Power supply.", 3 CD "An external capacitor is connected to determine the programmable delay time.", 4 VC4 (in) "Sense voltage input for least positive cell.", 5 GND (power) "Ground pin.", 6 VC3 (in) "Sense voltage input for third most positive cell.", 7 VC2 (in) "Sense voltage input for second most positive cell.", 8 VC1 (in) "Sense voltage input for most positive cell."

## BQ29411DCTTG4
designator U?
Secondary Over Voltage Protection for 2 to 4 Cell in Series Li-Ion / Poly (4.40 V), -40 to 110 degC, 8-pin SM8 (DCT), Green (RoHS & no Sb/Br); PartNumber: BQ29411DCTTG4; Manufacturer: Texas Instruments; Lead Acid: N; Li-Ion: Y; SubFamily: Lithium Ion Protection; DatasheetVersion: SLUS669G; PackageVersion: revC, Sep-2002; PackageReference: DCT8; PackageDescription: 8-Pin Thin Small Outline Package 3 x 2.8 mm Body ,0.65 mm Pitch; Supplier 1: Digi-Key; Supplier Part Number 1: BQ29411DCTTG4-ND; Supplier 2: Newark; Supplier Part Number 2: 20M5014; Supplier 3: Mouser; Supplier Part Number 3: 595-BQ29411DCTTG4; Eco-Plan: Green (RoHS & no Sb/Br); Li-Polymer: Y; NiCd: N; NiMH: N; Over Voltage Protection: Y; Mounting Technology: Surface Mount; Code_JEDEC: MO-187-DA; ComponentLink1Description: Datasheet; ComponentLink1URL: http://www.ti.com/general/docs/lit/getliterature.tsp?genericPartNumber=BQ29411&fileType=pdf
footprint DCT8_N (TSOP, 8-Leads, Body 3x2.8mm, Pitch 0.65mm, IPC Medium Density)
footprint DCT8_L (TSOP, 8-Leads, Body 3x2.8mm, Pitch 0.65mm, IPC High Density)
footprint DCT8_M (TSOP, 8-Leads, Body 3x2.8mm, Pitch 0.65mm, IPC Low Density)
pins: 1 OUT (out) "Output.", 2 VDD (power) "Power supply.", 3 CD "An external capacitor is connected to determine the programmable delay time.", 4 VC4 (in) "Sense voltage input for least positive cell.", 5 GND (power) "Ground pin.", 6 VC3 (in) "Sense voltage input for third most positive cell.", 7 VC2 (in) "Sense voltage input for second most positive cell.", 8 VC1 (in) "Sense voltage input for most positive cell."

## BQ29411PW
designator U?
Secondary Over Voltage Protection for 2 to 4 Cell in Series Li-Ion / Poly (4.40 V), -40 to 110 degC, 8-pin TSSOP (PW), Green (RoHS & no Sb/Br); PartNumber: BQ29411PW; Manufacturer: Texas Instruments; Lead Acid: N; Li-Ion: Y; SubFamily: Lithium Ion Protection; DatasheetVersion: SLUS669G; PackageVersion: revG, Feb-2011; PackageReference: PW8; PackageDescription: 8-Pin Plastic Thin Small Outline Package 3 x 4.4 mm Body ,0.65 mm Pitch; Supplier 1: Digi-Key; Supplier Part Number 1: 296-19575-5-ND; Supplier 2: Newark; Supplier Part Number 2: 84K0859; Supplier 3: Mouser; Supplier Part Number 3: 595-BQ29411PW; Eco-Plan: Green (RoHS & no Sb/Br); Li-Polymer: Y; NiCd: N; NiMH: N; Over Voltage Protection: Y; Mounting Technology: Surface Mount; Code_JEDEC: MO-153; ComponentLink1Description: Datasheet; ComponentLink1URL: http://www.ti.com/general/docs/lit/getliterature.tsp?genericPartNumber=BQ29411&fileType=pdf
footprint PW8_N (TSOP, 8-Leads, Body 3x4.4mm, Pitch 0.65mm, IPC Medium Density)
footprint PW8_L (TSOP, 8-Leads, Body 3x4.4mm, Pitch 0.65mm, IPC High Density)
footprint PW8_M (TSOP, 8-Leads, Body 3x4.4mm, Pitch 0.65mm, IPC Low Density)
pins: 1 VC1 (in) "Sense voltage input for most positive cell", 2 VC2 (in) "Sense voltage input for second most positive cell", 3 VC3 (in) "Sense voltage input for third most positive cell", 4 GND (power) "Ground pin", 5 VC4 (in) "Sense voltage input for least positive cell", 6 CD "An external capacitor is connected to determine the programmable delay time", 7 VDD (power) "Power supply", 8 OUT (out) "Output"

## BQ29411PWR
designator U?
Secondary Over Voltage Protection for 2 to 4 Cell in Series Li-Ion / Poly (4.40 V), -40 to 110 degC, 8-pin TSSOP (PW), Green (RoHS & no Sb/Br); PartNumber: BQ29411PWR; Manufacturer: Texas Instruments; Lead Acid: N; Li-Ion: Y; SubFamily: Lithium Ion Protection; DatasheetVersion: SLUS669G; PackageVersion: revG, Feb-2011; PackageReference: PW8; PackageDescription: 8-Pin Plastic Thin Small Outline Package 3 x 4.4 mm Body ,0.65 mm Pitch; Supplier 1: Digi-Key; Supplier Part Number 1: BQ29411PWR-ND; Supplier 2: Mouser; Supplier Part Number 2: 595-BQ29411PWR; Eco-Plan: Green (RoHS & no Sb/Br); Li-Polymer: Y; NiCd: N; NiMH: N; Over Voltage Protection: Y; Mounting Technology: Surface Mount; Code_JEDEC: MO-153; ComponentLink1Description: Datasheet; ComponentLink1URL: http://www.ti.com/general/docs/lit/getliterature.tsp?genericPartNumber=BQ29411&fileType=pdf
footprint PW8_N (TSOP, 8-Leads, Body 3x4.4mm, Pitch 0.65mm, IPC Medium Density)
footprint PW8_L (TSOP, 8-Leads, Body 3x4.4mm, Pitch 0.65mm, IPC High Density)
footprint PW8_M (TSOP, 8-Leads, Body 3x4.4mm, Pitch 0.65mm, IPC Low Density)
pins: 1 VC1 (in) "Sense voltage input for most positive cell", 2 VC2 (in) "Sense voltage input for second most positive cell", 3 VC3 (in) "Sense voltage input for third most positive cell", 4 GND (power) "Ground pin", 5 VC4 (in) "Sense voltage input for least positive cell", 6 CD "An external capacitor is connected to determine the programmable delay time", 7 VDD (power) "Power supply", 8 OUT (out) "Output"

## BQ29411PWRG4
designator U?
Secondary Over Voltage Protection for 2 to 4 Cell in Series Li-Ion / Poly (4.40 V), -40 to 110 degC, 8-pin TSSOP (PW), Green (RoHS & no Sb/Br); PartNumber: BQ29411PWRG4; Manufacturer: Texas Instruments; Lead Acid: N; Li-Ion: Y; SubFamily: Lithium Ion Protection; DatasheetVersion: SLUS669G; PackageVersion: revG, Feb-2011; PackageReference: PW8; PackageDescription: 8-Pin Plastic Thin Small Outline Package 3 x 4.4 mm Body ,0.65 mm Pitch; Supplier 1: Digi-Key; Supplier Part Number 1: 296-21220-2-ND; Supplier 2: Digi-Key; Supplier Part Number 2: 296-21220-1-ND; Supplier 3: Digi-Key; Supplier Part Number 3: 296-21220-6-ND; Supplier 4: Newark; Supplier Part Number 4: 21M9465; Supplier 5: Mouser; Supplier Part Number 5: 595-BQ29411PWRG4; Eco-Plan: Green (RoHS & no Sb/Br); Li-Polymer: Y; NiCd: N; NiMH: N; Over Voltage Protection: Y; Mounting Technology: Surface Mount; Code_JEDEC: MO-153; ComponentLink1Description: Datasheet; ComponentLink1URL: http://www.ti.com/general/docs/lit/getliterature.tsp?genericPartNumber=BQ29411&fileType=pdf
footprint PW8_N (TSOP, 8-Leads, Body 3x4.4mm, Pitch 0.65mm, IPC Medium Density)
footprint PW8_L (TSOP, 8-Leads, Body 3x4.4mm, Pitch 0.65mm, IPC High Density)
footprint PW8_M (TSOP, 8-Leads, Body 3x4.4mm, Pitch 0.65mm, IPC Low Density)
pins: 1 VC1 (in) "Sense voltage input for most positive cell", 2 VC2 (in) "Sense voltage input for second most positive cell", 3 VC3 (in) "Sense voltage input for third most positive cell", 4 GND (power) "Ground pin", 5 VC4 (in) "Sense voltage input for least positive cell", 6 CD "An external capacitor is connected to determine the programmable delay time", 7 VDD (power) "Power supply", 8 OUT (out) "Output"

## BQ29412DCT3R
designator U?
Secondary Over Voltage Protection for 2 to 4 Cell in Series Li-Ion / Poly (4.45 V), -40 to 110 degC, 8-pin SM8 (DCT), Pb-Free (RoHS); PartNumber: BQ29412DCT3R; Manufacturer: Texas Instruments; Lead Acid: N; Li-Ion: Y; SubFamily: Lithium Ion Protection; DatasheetVersion: SLUS669G; PackageVersion: revC, Sep-2002; PackageReference: DCT8; PackageDescription: 8-Pin Thin Small Outline Package 3 x 2.8 mm Body ,0.65 mm Pitch; Supplier 1: Digi-Key; Supplier Part Number 1: 296-19277-2-ND; Supplier 2: Digi-Key; Supplier Part Number 2: 296-19277-1-ND; Supplier 3: Digi-Key; Supplier Part Number 3: 296-19277-6-ND; Supplier 4: Farnell; Supplier Part Number 4: 1754258; Supplier 5: Newark; Supplier Part Number 5: 69K8931; Supplier 6: Mouser; Supplier Part Number 6: 595-BQ29412DCT3R; Eco-Plan: Pb-Free (RoHS); Li-Polymer: Y; NiCd: N; NiMH: N; Over Voltage Protection: Y; Mounting Technology: Surface Mount; Code_JEDEC: MO-187-DA; ComponentLink1Description: Datasheet; ComponentLink1URL: http://www.ti.com/general/docs/lit/getliterature.tsp?genericPartNumber=BQ29412&fileType=pdf
footprint DCT8_N (TSOP, 8-Leads, Body 3x2.8mm, Pitch 0.65mm, IPC Medium Density)
footprint DCT8_L (TSOP, 8-Leads, Body 3x2.8mm, Pitch 0.65mm, IPC High Density)
footprint DCT8_M (TSOP, 8-Leads, Body 3x2.8mm, Pitch 0.65mm, IPC Low Density)
pins: 1 OUT (out) "Output", 2 VDD (power) "Power supply", 3 CD "An external capacitor is connected to determine the programmable delay time", 4 VC4 (in) "Sense voltage input for least positive cell", 5 GND (power) "Ground pin", 6 VC3 (in) "Sense voltage input for third most positive cell", 7 VC2 (in) "Sense voltage input for second most positive cell", 8 VC1 (in) "Sense voltage input for most positive cell"